# Altium footprint library CH0402C.PcbLib: 1 footprints
Each footprint in its own frame and in the unit in brackets; x right, y up, seen from the top. Pads: shape width x height; smd on the part's side, far side on the other; paste and mask are expansions set on the pad; w line width, h text height; cw(c..) or ccw(c..) is an arc to the next point about the centre after c.
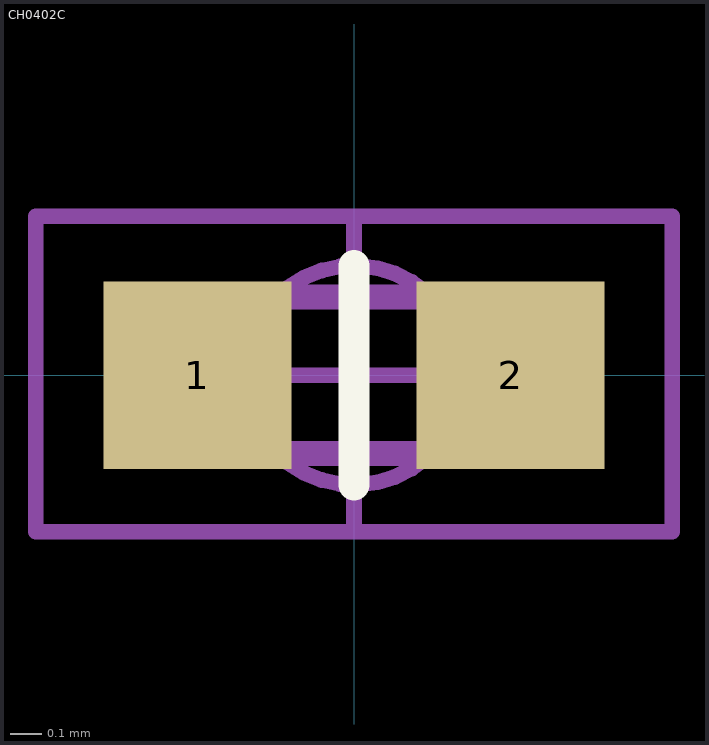
[diagram p0: the footprint, top view; thin cyan lines are the x and y axes]

## CH0402C [mm] "Chip Capacitor, Body 1x0.5mm IPC Medium Density"
height 0.5
pads (2):
  rect 0.6x0.6 smd: 1(-0.5,0) 2(0.5,0)
Top Overlay:
  lines w0.1: 0,-0.35 0,0.35
Mechanical 14:
  lines w0.08: -0.51,-0.25 0.498,-0.25 0.498,0.25 -0.51,0.25 -0.51,-0.25
Mechanical 15:
  circle w0.05: c0,0 r0.35
  lines w0.05: -0.5,0 0.5,0 ; 0,-0.5 0,0.5 ; -1.016,-0.5 -1.016,0.508 1.016,0.508 1.016,-0.5 -1.016,-0.5
3D body: height 0.25, standoff -19.93, extent 0,0 0,0
3D body: height 0.25, standoff -19.93, extent 0,0 0,0
3D body: height 0.5, standoff 0, extent -0.51,-0.25 0.498,0.25